# EAGLE library part HEX_INV_SHMITT_TRIG (library launch-tower)
Single Schmitt-Trigger Inverter Gate
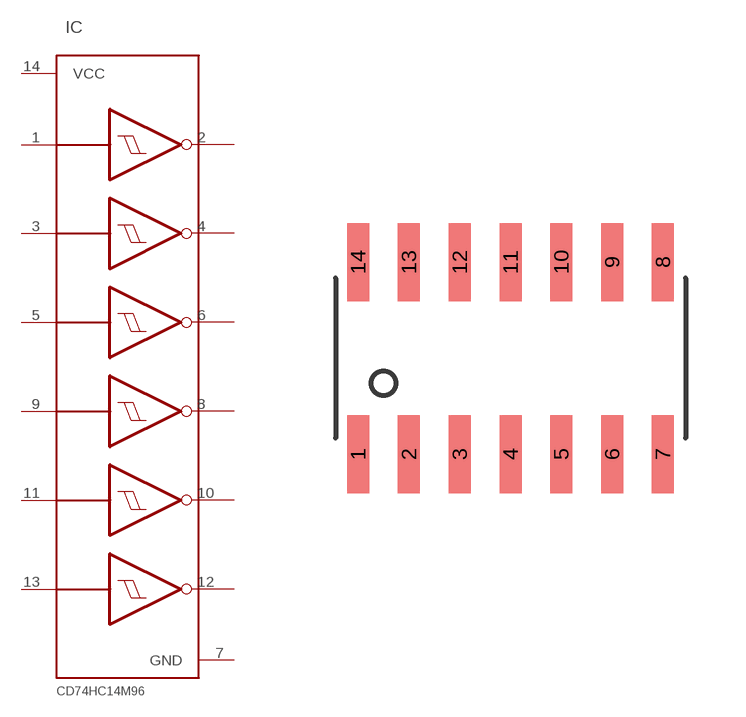
[diagram p0: symbol with the pads of INVERTSOIC14; footprint INVERTSOIC14]

Designator prefix IC

## HEX_INV_SHMITT_TRIG  [INVERTSOIC14]
1  1A  in
2  1Y  out
3  2A  in
4  2Y  out
5  3A  in
6  3Y  out
7  GND
8  4Y  out
9  4A  in
10  5Y  out
11  5A  in
12  6Y  out
13  6A  in
14  VCC

## Footprint INVERTSOIC14 (pad centres in mm)
smd 0.55 x 1.95: 1 -3.81,-2.4; 2 -2.54,-2.4; 3 -1.27,-2.4; 4 0,-2.4; 5 1.27,-2.4; 6 2.54,-2.4; 7 3.81,-2.4; 8 3.81,2.4; 9 2.54,2.4; 10 1.27,2.4; 11 0,2.4; 12 -1.27,2.4; 13 -2.54,2.4; 14 -3.81,2.4